# Altium schematic symbol library kmilo17pet-LT_OpAmp_LT2000.SchLib: 1710 symbols (part 71 of 75)
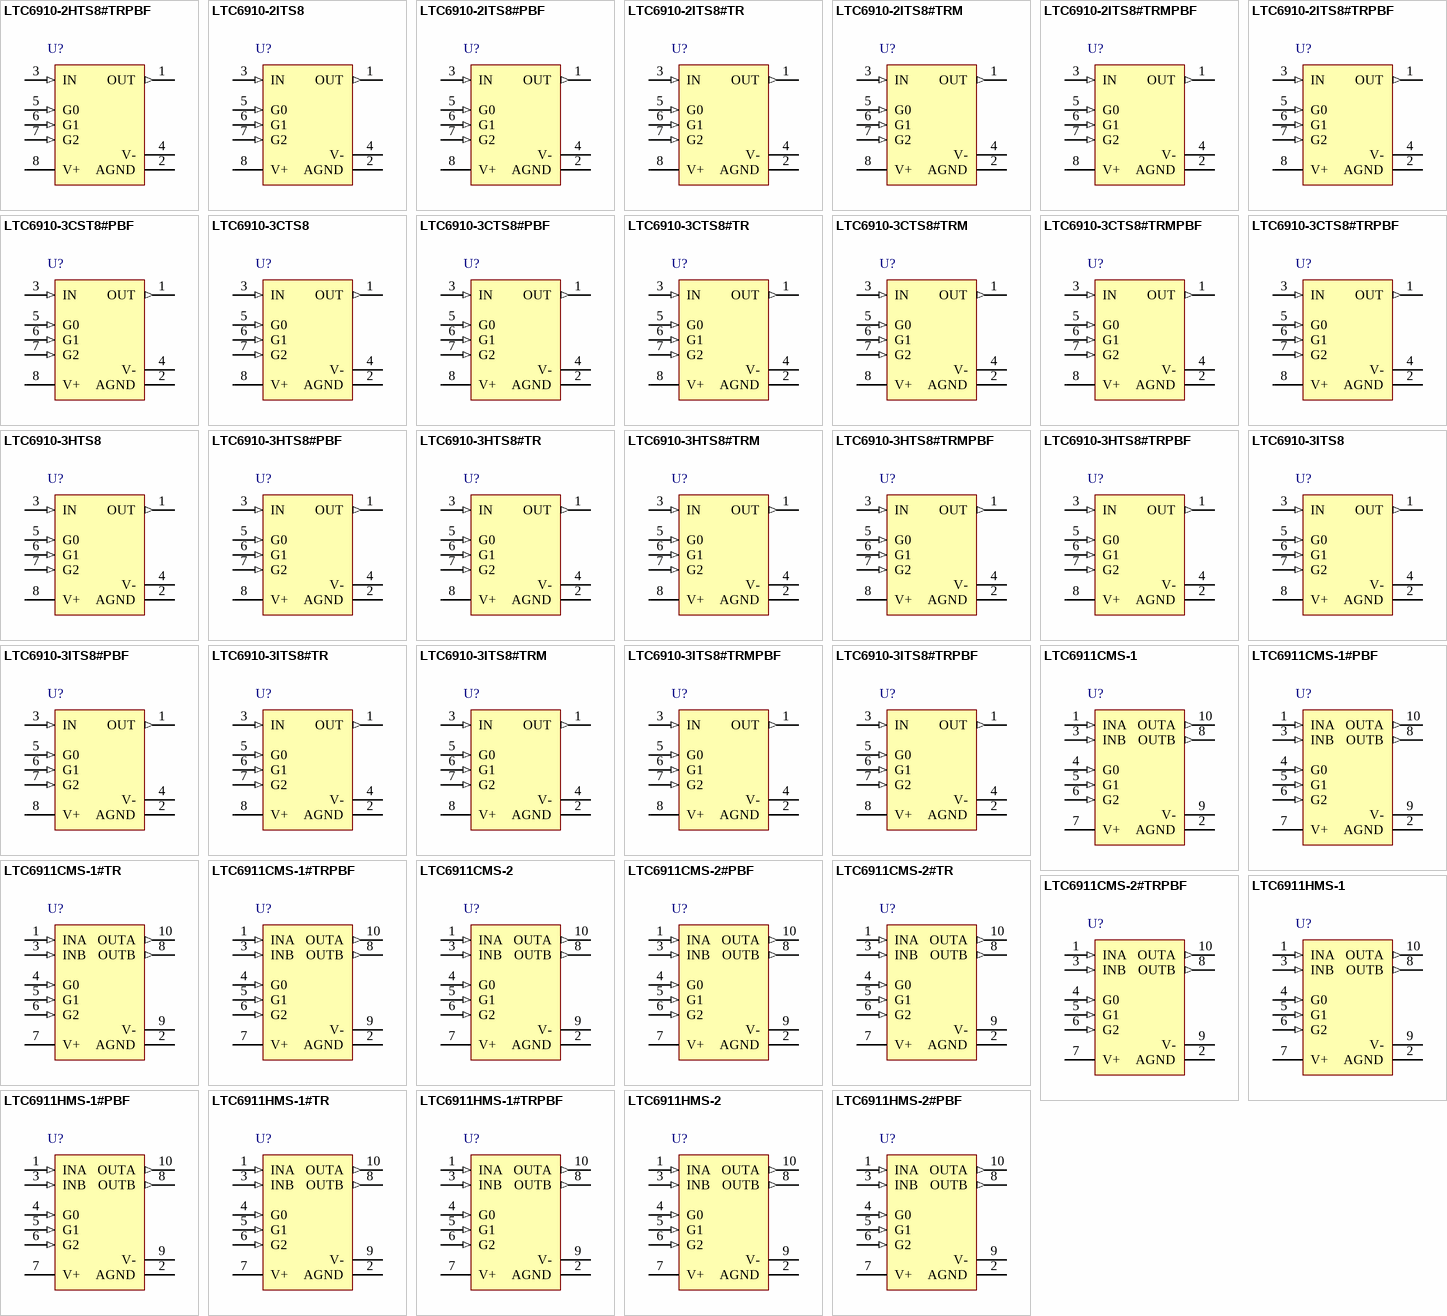
[diagram p150: symbols LTC6910-2HTS8#TRPBF to LTC6911HMS-2#PBF]

## LTC6910-3HTS8#TRM
designator U?
Single Channel, Digitally Controlled Programmable Gain Amplifier, 11 MHz Typical GBW, 16 V/us Typical SR, 2.7 to 11 V, 8-Pin SOT23 (TS8-8), High Temperature / Automotive, Mini Reel; Linear Technology Part Number: LTC6910-3; Manufacturer: Linear Technology; PartNumber: LTC6910-3HTS8#TRM; Channels (#): 1; GBW (MHz) Typical: 11; Is (mA) Typical: 2; SR (V/us) Typical: 16; Vos (mV) Typical: 3; Vs Min (V): 2.7; DatasheetVersion: Rev. A; PackageVersion: Rev A; PackageReference: LT-TS8-8-TSOT-23; PackageDescription: 8-Lead Plastic TSOT-23, Body 2.9 x 1.63 mm, Pitch 0.65 mm; Supplier 1: Digi-Key; Supplier Part Number 1: LTC6910-3HTS8#TRM-ND; Packing: Mini Reel; Type: PGA; Vs Max (V): 11; Mounting Technology: Surface Mount; Code_JEDEC: MO-193; ComponentLink1Description: Manufacturer URL; ComponentLink1URL: http://www.linear.com/; ComponentLink2Description: Datasheet; ComponentLink2URL: http://cds.linear.com/docs/en/datasheet/6910123fa.pdf; ComponentLink3Description: Package Specification; ComponentLink3URL: http://cds.linear.com/docs/en/packaging/SOT_8_05-08-1637.pdf
footprint LT-TS8-8-TSOT-23_V (SOT23, 8-Leads, Body 2.90x1.63mm, Pitch 0.65mm, IPC High Density, Recommended)
pins: 1 OUT (out) "Analog Output. This is the output of an internal operational amplifier and swings to near the power supply rails (V+ and V-) as specified in the Electrical Characteristics table.", 2 AGND (power) "Analog Ground. The AGND pin is at the midpoint of an internal resistive voltage divider, develop- ing a potential halfway between the V+ and V- pins, with an equivalent series resistance to the pin of nominally 5k ohm.", 3 IN (in) "Analog Input. The input signal to the amplifier in the LTC6910-X is the voltage difference between the IN and AGND pins.", 4 V- (power) "Power Supply Pin.", 5 G0 (in) "CMOS-Level Digital Gain- Control Input.", 6 G1 (in) "CMOS-Level Digital Gain- Control Input.", 7 G2 (in) "CMOS-Level Digital Gain- Control Input.", 8 V+ (power) "Power Supply Pin."

## LTC6910-3HTS8#TRMPBF
designator U?
Single Channel, Digitally Controlled Programmable Gain Amplifier, 11 MHz Typical GBW, 16 V/us Typical SR, 2.7 to 11 V, 8-Pin SOT23 (TS8-8), High Temperature / Automotive, Pb-Free, Mini Reel; Linear Technology Part Number: LTC6910-3; Manufacturer: Linear Technology; PartNumber: LTC6910-3HTS8#TRMPBF; Channels (#): 1; GBW (MHz) Typical: 11; Is (mA) Typical: 2; SR (V/us) Typical: 16; Vos (mV) Typical: 3; Vs Min (V): 2.7; DatasheetVersion: Rev. A; PackageVersion: Rev A; PackageReference: LT-TS8-8-TSOT-23; PackageDescription: 8-Lead Plastic TSOT-23, Body 2.9 x 1.63 mm, Pitch 0.65 mm; Supplier 1: Digi-Key; Supplier Part Number 1: LTC6910-3HTS8#TRMPBF-ND; Packing: Mini Reel; RoHS: Pb-Free; Type: PGA; Vs Max (V): 11; Mounting Technology: Surface Mount; Code_JEDEC: MO-193; ComponentLink1Description: Manufacturer URL; ComponentLink1URL: http://www.linear.com/; ComponentLink2Description: Datasheet; ComponentLink2URL: http://cds.linear.com/docs/en/datasheet/6910123fa.pdf; ComponentLink3Description: Package Specification; ComponentLink3URL: http://cds.linear.com/docs/en/packaging/SOT_8_05-08-1637.pdf
footprint LT-TS8-8-TSOT-23_V (SOT23, 8-Leads, Body 2.90x1.63mm, Pitch 0.65mm, IPC High Density, Recommended)
pins: 1 OUT (out) "Analog Output. This is the output of an internal operational amplifier and swings to near the power supply rails (V+ and V-) as specified in the Electrical Characteristics table.", 2 AGND (power) "Analog Ground. The AGND pin is at the midpoint of an internal resistive voltage divider, develop- ing a potential halfway between the V+ and V- pins, with an equivalent series resistance to the pin of nominally 5k ohm.", 3 IN (in) "Analog Input. The input signal to the amplifier in the LTC6910-X is the voltage difference between the IN and AGND pins.", 4 V- (power) "Power Supply Pin.", 5 G0 (in) "CMOS-Level Digital Gain- Control Input.", 6 G1 (in) "CMOS-Level Digital Gain- Control Input.", 7 G2 (in) "CMOS-Level Digital Gain- Control Input.", 8 V+ (power) "Power Supply Pin."

## LTC6910-3HTS8#TRPBF
designator U?
Single Channel, Digitally Controlled Programmable Gain Amplifier, 11 MHz Typical GBW, 16 V/us Typical SR, 2.7 to 11 V, 8-Pin SOT23 (TS8-8), High Temperature / Automotive, Pb-Free, Reel; Linear Technology Part Number: LTC6910-3; Manufacturer: Linear Technology; PartNumber: LTC6910-3HTS8#TRPBF; Channels (#): 1; GBW (MHz) Typical: 11; Is (mA) Typical: 2; SR (V/us) Typical: 16; Vos (mV) Typical: 3; Vs Min (V): 2.7; DatasheetVersion: Rev. A; PackageVersion: Rev A; PackageReference: LT-TS8-8-TSOT-23; PackageDescription: 8-Lead Plastic TSOT-23, Body 2.9 x 1.63 mm, Pitch 0.65 mm; Supplier 1: Digi-Key; Supplier Part Number 1: LTC6910-3HTS8#TRPBF-ND; Packing: Reel; RoHS: Pb-Free; Type: PGA; Vs Max (V): 11; Mounting Technology: Surface Mount; Code_JEDEC: MO-193; ComponentLink1Description: Manufacturer URL; ComponentLink1URL: http://www.linear.com/; ComponentLink2Description: Datasheet; ComponentLink2URL: http://cds.linear.com/docs/en/datasheet/6910123fa.pdf; ComponentLink3Description: Package Specification; ComponentLink3URL: http://cds.linear.com/docs/en/packaging/SOT_8_05-08-1637.pdf
footprint LT-TS8-8-TSOT-23_V (SOT23, 8-Leads, Body 2.90x1.63mm, Pitch 0.65mm, IPC High Density, Recommended)
pins: 1 OUT (out) "Analog Output. This is the output of an internal operational amplifier and swings to near the power supply rails (V+ and V-) as specified in the Electrical Characteristics table.", 2 AGND (power) "Analog Ground. The AGND pin is at the midpoint of an internal resistive voltage divider, develop- ing a potential halfway between the V+ and V- pins, with an equivalent series resistance to the pin of nominally 5k ohm.", 3 IN (in) "Analog Input. The input signal to the amplifier in the LTC6910-X is the voltage difference between the IN and AGND pins.", 4 V- (power) "Power Supply Pin.", 5 G0 (in) "CMOS-Level Digital Gain- Control Input.", 6 G1 (in) "CMOS-Level Digital Gain- Control Input.", 7 G2 (in) "CMOS-Level Digital Gain- Control Input.", 8 V+ (power) "Power Supply Pin."

## LTC6910-3ITS8
designator U?
Single Channel, Digitally Controlled Programmable Gain Amplifier, 11 MHz Typical GBW, 16 V/us Typical SR, 2.7 to 11 V, 8-Pin SOT23 (TS8-8), Industrial; Linear Technology Part Number: LTC6910-3; Manufacturer: Linear Technology; PartNumber: LTC6910-3ITS8; Channels (#): 1; GBW (MHz) Typical: 11; Is (mA) Typical: 2; SR (V/us) Typical: 16; Vos (mV) Typical: 3; Vs Min (V): 2.7; DatasheetVersion: Rev. A; PackageVersion: Rev A; PackageReference: LT-TS8-8-TSOT-23; PackageDescription: 8-Lead Plastic TSOT-23, Body 2.9 x 1.63 mm, Pitch 0.65 mm; Type: PGA; Vs Max (V): 11; Mounting Technology: Surface Mount; Code_JEDEC: MO-193; ComponentLink1Description: Manufacturer URL; ComponentLink1URL: http://www.linear.com/; ComponentLink2Description: Datasheet; ComponentLink2URL: http://cds.linear.com/docs/en/datasheet/6910123fa.pdf; ComponentLink3Description: Package Specification; ComponentLink3URL: http://cds.linear.com/docs/en/packaging/SOT_8_05-08-1637.pdf
footprint LT-TS8-8-TSOT-23_V (SOT23, 8-Leads, Body 2.90x1.63mm, Pitch 0.65mm, IPC High Density, Recommended)
pins: 1 OUT (out) "Analog Output. This is the output of an internal operational amplifier and swings to near the power supply rails (V+ and V-) as specified in the Electrical Characteristics table.", 2 AGND (power) "Analog Ground. The AGND pin is at the midpoint of an internal resistive voltage divider, develop- ing a potential halfway between the V+ and V- pins, with an equivalent series resistance to the pin of nominally 5k ohm.", 3 IN (in) "Analog Input. The input signal to the amplifier in the LTC6910-X is the voltage difference between the IN and AGND pins.", 4 V- (power) "Power Supply Pin.", 5 G0 (in) "CMOS-Level Digital Gain- Control Input.", 6 G1 (in) "CMOS-Level Digital Gain- Control Input.", 7 G2 (in) "CMOS-Level Digital Gain- Control Input.", 8 V+ (power) "Power Supply Pin."

## LTC6910-3ITS8#PBF
designator U?
Single Channel, Digitally Controlled Programmable Gain Amplifier, 11 MHz Typical GBW, 16 V/us Typical SR, 2.7 to 11 V, 8-Pin SOT23 (TS8-8), Industrial, Pb-Free; Linear Technology Part Number: LTC6910-3; Manufacturer: Linear Technology; PartNumber: LTC6910-3ITS8#PBF; Channels (#): 1; GBW (MHz) Typical: 11; Is (mA) Typical: 2; SR (V/us) Typical: 16; Vos (mV) Typical: 3; Vs Min (V): 2.7; DatasheetVersion: Rev. A; PackageVersion: Rev A; PackageReference: LT-TS8-8-TSOT-23; PackageDescription: 8-Lead Plastic TSOT-23, Body 2.9 x 1.63 mm, Pitch 0.65 mm; Supplier 1: Newark; Supplier Part Number 1: 78T3524; RoHS: Pb-Free; Type: PGA; Vs Max (V): 11; Mounting Technology: Surface Mount; Code_JEDEC: MO-193; ComponentLink1Description: Manufacturer URL; ComponentLink1URL: http://www.linear.com/; ComponentLink2Description: Datasheet; ComponentLink2URL: http://cds.linear.com/docs/en/datasheet/6910123fa.pdf; ComponentLink3Description: Package Specification; ComponentLink3URL: http://cds.linear.com/docs/en/packaging/SOT_8_05-08-1637.pdf
footprint LT-TS8-8-TSOT-23_V (SOT23, 8-Leads, Body 2.90x1.63mm, Pitch 0.65mm, IPC High Density, Recommended)
pins: 1 OUT (out) "Analog Output. This is the output of an internal operational amplifier and swings to near the power supply rails (V+ and V-) as specified in the Electrical Characteristics table.", 2 AGND (power) "Analog Ground. The AGND pin is at the midpoint of an internal resistive voltage divider, develop- ing a potential halfway between the V+ and V- pins, with an equivalent series resistance to the pin of nominally 5k ohm.", 3 IN (in) "Analog Input. The input signal to the amplifier in the LTC6910-X is the voltage difference between the IN and AGND pins.", 4 V- (power) "Power Supply Pin.", 5 G0 (in) "CMOS-Level Digital Gain- Control Input.", 6 G1 (in) "CMOS-Level Digital Gain- Control Input.", 7 G2 (in) "CMOS-Level Digital Gain- Control Input.", 8 V+ (power) "Power Supply Pin."

## LTC6910-3ITS8#TR
designator U?
Single Channel, Digitally Controlled Programmable Gain Amplifier, 11 MHz Typical GBW, 16 V/us Typical SR, 2.7 to 11 V, 8-Pin SOT23 (TS8-8), Industrial, Reel; Linear Technology Part Number: LTC6910-3; Manufacturer: Linear Technology; PartNumber: LTC6910-3ITS8#TR; Channels (#): 1; GBW (MHz) Typical: 11; Is (mA) Typical: 2; SR (V/us) Typical: 16; Vos (mV) Typical: 3; Vs Min (V): 2.7; DatasheetVersion: Rev. A; PackageVersion: Rev A; PackageReference: LT-TS8-8-TSOT-23; PackageDescription: 8-Lead Plastic TSOT-23, Body 2.9 x 1.63 mm, Pitch 0.65 mm; Supplier 1: Digi-Key; Supplier Part Number 1: LTC6910-3ITS8#TR-ND; Packing: Reel; Type: PGA; Vs Max (V): 11; Mounting Technology: Surface Mount; Code_JEDEC: MO-193; ComponentLink1Description: Manufacturer URL; ComponentLink1URL: http://www.linear.com/; ComponentLink2Description: Datasheet; ComponentLink2URL: http://cds.linear.com/docs/en/datasheet/6910123fa.pdf; ComponentLink3Description: Package Specification; ComponentLink3URL: http://cds.linear.com/docs/en/packaging/SOT_8_05-08-1637.pdf
footprint LT-TS8-8-TSOT-23_V (SOT23, 8-Leads, Body 2.90x1.63mm, Pitch 0.65mm, IPC High Density, Recommended)
pins: 1 OUT (out) "Analog Output. This is the output of an internal operational amplifier and swings to near the power supply rails (V+ and V-) as specified in the Electrical Characteristics table.", 2 AGND (power) "Analog Ground. The AGND pin is at the midpoint of an internal resistive voltage divider, develop- ing a potential halfway between the V+ and V- pins, with an equivalent series resistance to the pin of nominally 5k ohm.", 3 IN (in) "Analog Input. The input signal to the amplifier in the LTC6910-X is the voltage difference between the IN and AGND pins.", 4 V- (power) "Power Supply Pin.", 5 G0 (in) "CMOS-Level Digital Gain- Control Input.", 6 G1 (in) "CMOS-Level Digital Gain- Control Input.", 7 G2 (in) "CMOS-Level Digital Gain- Control Input.", 8 V+ (power) "Power Supply Pin."

## LTC6910-3ITS8#TRM
designator U?
Single Channel, Digitally Controlled Programmable Gain Amplifier, 11 MHz Typical GBW, 16 V/us Typical SR, 2.7 to 11 V, 8-Pin SOT23 (TS8-8), Industrial, Mini Reel; Linear Technology Part Number: LTC6910-3; Manufacturer: Linear Technology; PartNumber: LTC6910-3ITS8#TRM; Channels (#): 1; GBW (MHz) Typical: 11; Is (mA) Typical: 2; SR (V/us) Typical: 16; Vos (mV) Typical: 3; Vs Min (V): 2.7; DatasheetVersion: Rev. A; PackageVersion: Rev A; PackageReference: LT-TS8-8-TSOT-23; PackageDescription: 8-Lead Plastic TSOT-23, Body 2.9 x 1.63 mm, Pitch 0.65 mm; Supplier 1: Digi-Key; Supplier Part Number 1: LTC6910-3ITS8#TRM-ND; Packing: Mini Reel; Type: PGA; Vs Max (V): 11; Mounting Technology: Surface Mount; Code_JEDEC: MO-193; ComponentLink1Description: Manufacturer URL; ComponentLink1URL: http://www.linear.com/; ComponentLink2Description: Datasheet; ComponentLink2URL: http://cds.linear.com/docs/en/datasheet/6910123fa.pdf; ComponentLink3Description: Package Specification; ComponentLink3URL: http://cds.linear.com/docs/en/packaging/SOT_8_05-08-1637.pdf
footprint LT-TS8-8-TSOT-23_V (SOT23, 8-Leads, Body 2.90x1.63mm, Pitch 0.65mm, IPC High Density, Recommended)
pins: 1 OUT (out) "Analog Output. This is the output of an internal operational amplifier and swings to near the power supply rails (V+ and V-) as specified in the Electrical Characteristics table.", 2 AGND (power) "Analog Ground. The AGND pin is at the midpoint of an internal resistive voltage divider, develop- ing a potential halfway between the V+ and V- pins, with an equivalent series resistance to the pin of nominally 5k ohm.", 3 IN (in) "Analog Input. The input signal to the amplifier in the LTC6910-X is the voltage difference between the IN and AGND pins.", 4 V- (power) "Power Supply Pin.", 5 G0 (in) "CMOS-Level Digital Gain- Control Input.", 6 G1 (in) "CMOS-Level Digital Gain- Control Input.", 7 G2 (in) "CMOS-Level Digital Gain- Control Input.", 8 V+ (power) "Power Supply Pin."

## LTC6910-3ITS8#TRMPBF
designator U?
Single Channel, Digitally Controlled Programmable Gain Amplifier, 11 MHz Typical GBW, 16 V/us Typical SR, 2.7 to 11 V, 8-Pin SOT23 (TS8-8), Industrial, Pb-Free, Mini Reel; Linear Technology Part Number: LTC6910-3; Manufacturer: Linear Technology; PartNumber: LTC6910-3ITS8#TRMPBF; Channels (#): 1; GBW (MHz) Typical: 11; Is (mA) Typical: 2; SR (V/us) Typical: 16; Vos (mV) Typical: 3; Vs Min (V): 2.7; DatasheetVersion: Rev. A; PackageVersion: Rev A; PackageReference: LT-TS8-8-TSOT-23; PackageDescription: 8-Lead Plastic TSOT-23, Body 2.9 x 1.63 mm, Pitch 0.65 mm; Supplier 1: Digi-Key; Supplier Part Number 1: LTC6910-3ITS8#TRMPBF-ND; Packing: Mini Reel; RoHS: Pb-Free; Type: PGA; Vs Max (V): 11; Mounting Technology: Surface Mount; Code_JEDEC: MO-193; ComponentLink1Description: Manufacturer URL; ComponentLink1URL: http://www.linear.com/; ComponentLink2Description: Datasheet; ComponentLink2URL: http://cds.linear.com/docs/en/datasheet/6910123fa.pdf; ComponentLink3Description: Package Specification; ComponentLink3URL: http://cds.linear.com/docs/en/packaging/SOT_8_05-08-1637.pdf
footprint LT-TS8-8-TSOT-23_V (SOT23, 8-Leads, Body 2.90x1.63mm, Pitch 0.65mm, IPC High Density, Recommended)
pins: 1 OUT (out) "Analog Output. This is the output of an internal operational amplifier and swings to near the power supply rails (V+ and V-) as specified in the Electrical Characteristics table.", 2 AGND (power) "Analog Ground. The AGND pin is at the midpoint of an internal resistive voltage divider, develop- ing a potential halfway between the V+ and V- pins, with an equivalent series resistance to the pin of nominally 5k ohm.", 3 IN (in) "Analog Input. The input signal to the amplifier in the LTC6910-X is the voltage difference between the IN and AGND pins.", 4 V- (power) "Power Supply Pin.", 5 G0 (in) "CMOS-Level Digital Gain- Control Input.", 6 G1 (in) "CMOS-Level Digital Gain- Control Input.", 7 G2 (in) "CMOS-Level Digital Gain- Control Input.", 8 V+ (power) "Power Supply Pin."

## LTC6910-3ITS8#TRPBF
designator U?
Single Channel, Digitally Controlled Programmable Gain Amplifier, 11 MHz Typical GBW, 16 V/us Typical SR, 2.7 to 11 V, 8-Pin SOT23 (TS8-8), Industrial, Pb-Free, Reel; Linear Technology Part Number: LTC6910-3; Manufacturer: Linear Technology; PartNumber: LTC6910-3ITS8#TRPBF; Channels (#): 1; GBW (MHz) Typical: 11; Is (mA) Typical: 2; SR (V/us) Typical: 16; Vos (mV) Typical: 3; Vs Min (V): 2.7; DatasheetVersion: Rev. A; PackageVersion: Rev A; PackageReference: LT-TS8-8-TSOT-23; PackageDescription: 8-Lead Plastic TSOT-23, Body 2.9 x 1.63 mm, Pitch 0.65 mm; Supplier 1: Digi-Key; Supplier Part Number 1: LTC6910-3ITS8#TRPBF-ND; Packing: Reel; RoHS: Pb-Free; Type: PGA; Vs Max (V): 11; Mounting Technology: Surface Mount; Code_JEDEC: MO-193; ComponentLink1Description: Manufacturer URL; ComponentLink1URL: http://www.linear.com/; ComponentLink2Description: Datasheet; ComponentLink2URL: http://cds.linear.com/docs/en/datasheet/6910123fa.pdf; ComponentLink3Description: Package Specification; ComponentLink3URL: http://cds.linear.com/docs/en/packaging/SOT_8_05-08-1637.pdf
footprint LT-TS8-8-TSOT-23_V (SOT23, 8-Leads, Body 2.90x1.63mm, Pitch 0.65mm, IPC High Density, Recommended)
pins: 1 OUT (out) "Analog Output. This is the output of an internal operational amplifier and swings to near the power supply rails (V+ and V-) as specified in the Electrical Characteristics table.", 2 AGND (power) "Analog Ground. The AGND pin is at the midpoint of an internal resistive voltage divider, develop- ing a potential halfway between the V+ and V- pins, with an equivalent series resistance to the pin of nominally 5k ohm.", 3 IN (in) "Analog Input. The input signal to the amplifier in the LTC6910-X is the voltage difference between the IN and AGND pins.", 4 V- (power) "Power Supply Pin.", 5 G0 (in) "CMOS-Level Digital Gain- Control Input.", 6 G1 (in) "CMOS-Level Digital Gain- Control Input.", 7 G2 (in) "CMOS-Level Digital Gain- Control Input.", 8 V+ (power) "Power Supply Pin."

## LTC6911CMS-1
designator U?
Dual Channel, Matched Amplifier with Digitally Programmable Gain, 11 MHz Typical GBW, 16 V/us Typical SR, 2.7 to 10.5 V, 10-Pin SOP (MS-10), Commercial; Linear Technology Part Number: LTC6911-1; Manufacturer: Linear Technology; PartNumber: LTC6911CMS-1; Channels (#): 2; GBW (MHz) Typical: 11; Is (mA) Typical: 2.1; SR (V/us) Typical: 16; Vs Max (V): 10.5; Vs Min (V): 2.7; PackageVersion: Rev E; PackageReference: LT-MS-10; PackageDescription: 10-Lead Plastic MSOP, Body 3 x 3 mm, Pitch 0.5 mm; Supplier 1: Digi-Key; Supplier Part Number 1: LTC6911CMS-1-ND; Type: PGA; Vos (mV) Typical: 2; Mounting Technology: Surface Mount; ComponentLink1Description: Manufacturer URL; ComponentLink1URL: http://www.linear.com/; ComponentLink2Description: Datasheet; ComponentLink2URL: http://cds.linear.com/docs/en/datasheet/691112fs.pdf; ComponentLink3Description: Package Specification; ComponentLink3URL: http://cds.linear.com/docs/en/packaging/MSOP_10_05-08-1661.pdf
footprint LT-MS-10_N (SOP, 10-Leads, Body 3x3mm, Pitch 0.50mm, IPC Medium Density)
footprint LT-MS-10_L (SOP, 10-Leads, Body 3x3mm, Pitch 0.50mm, IPC High Density)
footprint LT-MS-10_M (SOP, 10-Leads, Body 3x3mm, Pitch 0.50mm, IPC Low Density)
pins: 1 INA (in) "Analog Input. The input signal to the A channel amplifier of the LTC6911-X is the voltage difference between the INA and AGND pin.", 2 AGND (power) "Analog Ground. The AGND pin is at the midpoint of an internal resistive voltage divider, developing a potential halfway between the V+ and V- pins, with an equivalent series resistance to the pin of nominally 5kW (FigureÊ1).", 3 INB (in) "Analog Input. Refer to INA pin description.", 4 G0 (in) "CMOS-Level Digital Gain Control Inputs. G2 is the most significant bit (MSB) and G0 is the least significant bit (LSB). These pins control the voltage gain settings for both channels (see Tables 1 and2). Each channel’s gain (See Datasheet)", 5 G1 (in) "CMOS-Level Digital Gain Control Inputs. G2 is the most significant bit (MSB) and G0 is the least significant bit (LSB). These pins control the voltage gain settings for both channels (see Tables 1 and2). Each channel’s gain (See Datasheet)", 6 G2 (in) "CMOS-Level Digital Gain Control Inputs. G2 is the most significant bit (MSB) and G0 is the least significant bit (LSB). These pins control the voltage gain settings for both channels (see Tables 1 and2). Each channel’s gain (See Datasheet)", 7 V+ (power) "Power Supply Pins. The V+ and V- pins should be bypassed with 0.1mF capacitors to an adequate analog ground plane using the shortest possible wiring. Electrically clean supplies and a low impedance ground are important for (See Datasheet)", 8 OUTB (out) "Analog Output. This is the output of the B channel internal operational amplifier and can swing railto- rail (V+ to V-) as specified in the Electrical Characteristics table.", 9 V- (power) "Power Supply Pins. The V+ and V- pins should be bypassed with 0.1mF capacitors to an adequate analog ground plane using the shortest possible wiring. Electrically clean supplies and a low impedance ground are important for (See Datasheet)", 10 OUTA (out) "Analog Output. Refer to OUTB pin description."

## LTC6911CMS-1#PBF
designator U?
Dual Channel, Matched Amplifier with Digitally Programmable Gain, 11 MHz Typical GBW, 16 V/us Typical SR, 2.7 to 10.5 V, 10-Pin SOP (MS-10), Commercial, Pb-Free; Linear Technology Part Number: LTC6911-1; Manufacturer: Linear Technology; PartNumber: LTC6911CMS-1#PBF; Channels (#): 2; GBW (MHz) Typical: 11; Is (mA) Typical: 2.1; SR (V/us) Typical: 16; Vs Max (V): 10.5; Vs Min (V): 2.7; PackageVersion: Rev E; PackageReference: LT-MS-10; PackageDescription: 10-Lead Plastic MSOP, Body 3 x 3 mm, Pitch 0.5 mm; Supplier 1: Digi-Key; Supplier Part Number 1: LTC6911CMS-1#PBF-ND; Supplier 2: Farnell; Supplier Part Number 2: 1330973; Supplier 3: Newark; Supplier Part Number 3: 57M0365; RoHS: Pb-Free; Type: PGA; Vos (mV) Typical: 2; Mounting Technology: Surface Mount; ComponentLink1Description: Manufacturer URL; ComponentLink1URL: http://www.linear.com/; ComponentLink2Description: Datasheet; ComponentLink2URL: http://cds.linear.com/docs/en/datasheet/691112fs.pdf; ComponentLink3Description: Package Specification; ComponentLink3URL: http://cds.linear.com/docs/en/packaging/MSOP_10_05-08-1661.pdf
footprint LT-MS-10_N (SOP, 10-Leads, Body 3x3mm, Pitch 0.50mm, IPC Medium Density)
footprint LT-MS-10_L (SOP, 10-Leads, Body 3x3mm, Pitch 0.50mm, IPC High Density)
footprint LT-MS-10_M (SOP, 10-Leads, Body 3x3mm, Pitch 0.50mm, IPC Low Density)
pins: 1 INA (in) "Analog Input. The input signal to the A channel amplifier of the LTC6911-X is the voltage difference between the INA and AGND pin.", 2 AGND (power) "Analog Ground. The AGND pin is at the midpoint of an internal resistive voltage divider, developing a potential halfway between the V+ and V- pins, with an equivalent series resistance to the pin of nominally 5kW (FigureÊ1).", 3 INB (in) "Analog Input. Refer to INA pin description.", 4 G0 (in) "CMOS-Level Digital Gain Control Inputs. G2 is the most significant bit (MSB) and G0 is the least significant bit (LSB). These pins control the voltage gain settings for both channels (see Tables 1 and2). Each channel’s gain (See Datasheet)", 5 G1 (in) "CMOS-Level Digital Gain Control Inputs. G2 is the most significant bit (MSB) and G0 is the least significant bit (LSB). These pins control the voltage gain settings for both channels (see Tables 1 and2). Each channel’s gain (See Datasheet)", 6 G2 (in) "CMOS-Level Digital Gain Control Inputs. G2 is the most significant bit (MSB) and G0 is the least significant bit (LSB). These pins control the voltage gain settings for both channels (see Tables 1 and2). Each channel’s gain (See Datasheet)", 7 V+ (power) "Power Supply Pins. The V+ and V- pins should be bypassed with 0.1mF capacitors to an adequate analog ground plane using the shortest possible wiring. Electrically clean supplies and a low impedance ground are important for (See Datasheet)", 8 OUTB (out) "Analog Output. This is the output of the B channel internal operational amplifier and can swing railto- rail (V+ to V-) as specified in the Electrical Characteristics table.", 9 V- (power) "Power Supply Pins. The V+ and V- pins should be bypassed with 0.1mF capacitors to an adequate analog ground plane using the shortest possible wiring. Electrically clean supplies and a low impedance ground are important for (See Datasheet)", 10 OUTA (out) "Analog Output. Refer to OUTB pin description."

## LTC6911CMS-1#TR
designator U?
Dual Channel, Matched Amplifier with Digitally Programmable Gain, 11 MHz Typical GBW, 16 V/us Typical SR, 2.7 to 10.5 V, 10-Pin SOP (MS-10), Commercial, Reel; Linear Technology Part Number: LTC6911-1; Manufacturer: Linear Technology; PartNumber: LTC6911CMS-1#TR; Channels (#): 2; GBW (MHz) Typical: 11; Is (mA) Typical: 2.1; SR (V/us) Typical: 16; Vs Max (V): 10.5; Vs Min (V): 2.7; PackageVersion: Rev E; PackageReference: LT-MS-10; PackageDescription: 10-Lead Plastic MSOP, Body 3 x 3 mm, Pitch 0.5 mm; Supplier 1: Digi-Key; Supplier Part Number 1: LTC6911CMS-1#TR-ND; Packing: Reel; Type: PGA; Vos (mV) Typical: 2; Mounting Technology: Surface Mount; ComponentLink1Description: Manufacturer URL; ComponentLink1URL: http://www.linear.com/; ComponentLink2Description: Datasheet; ComponentLink2URL: http://cds.linear.com/docs/en/datasheet/691112fs.pdf; ComponentLink3Description: Package Specification; ComponentLink3URL: http://cds.linear.com/docs/en/packaging/MSOP_10_05-08-1661.pdf
footprint LT-MS-10_N (SOP, 10-Leads, Body 3x3mm, Pitch 0.50mm, IPC Medium Density)
footprint LT-MS-10_L (SOP, 10-Leads, Body 3x3mm, Pitch 0.50mm, IPC High Density)
footprint LT-MS-10_M (SOP, 10-Leads, Body 3x3mm, Pitch 0.50mm, IPC Low Density)
pins: 1 INA (in) "Analog Input. The input signal to the A channel amplifier of the LTC6911-X is the voltage difference between the INA and AGND pin.", 2 AGND (power) "Analog Ground. The AGND pin is at the midpoint of an internal resistive voltage divider, developing a potential halfway between the V+ and V- pins, with an equivalent series resistance to the pin of nominally 5kW (FigureÊ1).", 3 INB (in) "Analog Input. Refer to INA pin description.", 4 G0 (in) "CMOS-Level Digital Gain Control Inputs. G2 is the most significant bit (MSB) and G0 is the least significant bit (LSB). These pins control the voltage gain settings for both channels (see Tables 1 and2). Each channel’s gain (See Datasheet)", 5 G1 (in) "CMOS-Level Digital Gain Control Inputs. G2 is the most significant bit (MSB) and G0 is the least significant bit (LSB). These pins control the voltage gain settings for both channels (see Tables 1 and2). Each channel’s gain (See Datasheet)", 6 G2 (in) "CMOS-Level Digital Gain Control Inputs. G2 is the most significant bit (MSB) and G0 is the least significant bit (LSB). These pins control the voltage gain settings for both channels (see Tables 1 and2). Each channel’s gain (See Datasheet)", 7 V+ (power) "Power Supply Pins. The V+ and V- pins should be bypassed with 0.1mF capacitors to an adequate analog ground plane using the shortest possible wiring. Electrically clean supplies and a low impedance ground are important for (See Datasheet)", 8 OUTB (out) "Analog Output. This is the output of the B channel internal operational amplifier and can swing railto- rail (V+ to V-) as specified in the Electrical Characteristics table.", 9 V- (power) "Power Supply Pins. The V+ and V- pins should be bypassed with 0.1mF capacitors to an adequate analog ground plane using the shortest possible wiring. Electrically clean supplies and a low impedance ground are important for (See Datasheet)", 10 OUTA (out) "Analog Output. Refer to OUTB pin description."

## LTC6911CMS-1#TRPBF
designator U?
Dual Channel, Matched Amplifier with Digitally Programmable Gain, 11 MHz Typical GBW, 16 V/us Typical SR, 2.7 to 10.5 V, 10-Pin SOP (MS-10), Commercial, Pb-Free, Reel; Linear Technology Part Number: LTC6911-1; Manufacturer: Linear Technology; PartNumber: LTC6911CMS-1#TRPBF; Channels (#): 2; GBW (MHz) Typical: 11; Is (mA) Typical: 2.1; SR (V/us) Typical: 16; Vs Max (V): 10.5; Vs Min (V): 2.7; PackageVersion: Rev E; PackageReference: LT-MS-10; PackageDescription: 10-Lead Plastic MSOP, Body 3 x 3 mm, Pitch 0.5 mm; Supplier 1: Digi-Key; Supplier Part Number 1: LTC6911CMS-1#TRPBF-ND; Packing: Reel; RoHS: Pb-Free; Type: PGA; Vos (mV) Typical: 2; Mounting Technology: Surface Mount; ComponentLink1Description: Manufacturer URL; ComponentLink1URL: http://www.linear.com/; ComponentLink2Description: Datasheet; ComponentLink2URL: http://cds.linear.com/docs/en/datasheet/691112fs.pdf; ComponentLink3Description: Package Specification; ComponentLink3URL: http://cds.linear.com/docs/en/packaging/MSOP_10_05-08-1661.pdf
footprint LT-MS-10_N (SOP, 10-Leads, Body 3x3mm, Pitch 0.50mm, IPC Medium Density)
footprint LT-MS-10_L (SOP, 10-Leads, Body 3x3mm, Pitch 0.50mm, IPC High Density)
footprint LT-MS-10_M (SOP, 10-Leads, Body 3x3mm, Pitch 0.50mm, IPC Low Density)
pins: 1 INA (in) "Analog Input. The input signal to the A channel amplifier of the LTC6911-X is the voltage difference between the INA and AGND pin.", 2 AGND (power) "Analog Ground. The AGND pin is at the midpoint of an internal resistive voltage divider, developing a potential halfway between the V+ and V- pins, with an equivalent series resistance to the pin of nominally 5kW (FigureÊ1).", 3 INB (in) "Analog Input. Refer to INA pin description.", 4 G0 (in) "CMOS-Level Digital Gain Control Inputs. G2 is the most significant bit (MSB) and G0 is the least significant bit (LSB). These pins control the voltage gain settings for both channels (see Tables 1 and2). Each channel’s gain (See Datasheet)", 5 G1 (in) "CMOS-Level Digital Gain Control Inputs. G2 is the most significant bit (MSB) and G0 is the least significant bit (LSB). These pins control the voltage gain settings for both channels (see Tables 1 and2). Each channel’s gain (See Datasheet)", 6 G2 (in) "CMOS-Level Digital Gain Control Inputs. G2 is the most significant bit (MSB) and G0 is the least significant bit (LSB). These pins control the voltage gain settings for both channels (see Tables 1 and2). Each channel’s gain (See Datasheet)", 7 V+ (power) "Power Supply Pins. The V+ and V- pins should be bypassed with 0.1mF capacitors to an adequate analog ground plane using the shortest possible wiring. Electrically clean supplies and a low impedance ground are important for (See Datasheet)", 8 OUTB (out) "Analog Output. This is the output of the B channel internal operational amplifier and can swing railto- rail (V+ to V-) as specified in the Electrical Characteristics table.", 9 V- (power) "Power Supply Pins. The V+ and V- pins should be bypassed with 0.1mF capacitors to an adequate analog ground plane using the shortest possible wiring. Electrically clean supplies and a low impedance ground are important for (See Datasheet)", 10 OUTA (out) "Analog Output. Refer to OUTB pin description."

## LTC6911CMS-2
designator U?
Dual Channel, Matched Amplifier with Digitally Programmable Gain, 11 MHz Typical GBW, 16 V/us Typical SR, 2.7 to 10.5 V, 10-Pin SOP (MS-10), Commercial; Linear Technology Part Number: LTC6911-2; Manufacturer: Linear Technology; PartNumber: LTC6911CMS-2; Channels (#): 2; GBW (MHz) Typical: 11; Is (mA) Typical: 2.1; SR (V/us) Typical: 16; Vs Max (V): 10.5; Vs Min (V): 2.7; PackageVersion: Rev E; PackageReference: LT-MS-10; PackageDescription: 10-Lead Plastic MSOP, Body 3 x 3 mm, Pitch 0.5 mm; Supplier 1: Digi-Key; Supplier Part Number 1: LTC6911CMS-2-ND; Type: PGA; Vos (mV) Typical: 2; Mounting Technology: Surface Mount; ComponentLink1Description: Manufacturer URL; ComponentLink1URL: http://www.linear.com/; ComponentLink2Description: Datasheet; ComponentLink2URL: http://cds.linear.com/docs/en/datasheet/691112fs.pdf; ComponentLink3Description: Package Specification; ComponentLink3URL: http://cds.linear.com/docs/en/packaging/MSOP_10_05-08-1661.pdf
footprint LT-MS-10_N (SOP, 10-Leads, Body 3x3mm, Pitch 0.50mm, IPC Medium Density)
footprint LT-MS-10_L (SOP, 10-Leads, Body 3x3mm, Pitch 0.50mm, IPC High Density)
footprint LT-MS-10_M (SOP, 10-Leads, Body 3x3mm, Pitch 0.50mm, IPC Low Density)
pins: 1 INA (in) "Analog Input. The input signal to the A channel amplifier of the LTC6911-X is the voltage difference between the INA and AGND pin.", 2 AGND (power) "Analog Ground. The AGND pin is at the midpoint of an internal resistive voltage divider, developing a potential halfway between the V+ and V- pins, with an equivalent series resistance to the pin of nominally 5kW (FigureÊ1).", 3 INB (in) "Analog Input. Refer to INA pin description.", 4 G0 (in) "CMOS-Level Digital Gain Control Inputs. G2 is the most significant bit (MSB) and G0 is the least significant bit (LSB). These pins control the voltage gain settings for both channels (see Tables 1 and2). Each channel’s gain (See Datasheet)", 5 G1 (in) "CMOS-Level Digital Gain Control Inputs. G2 is the most significant bit (MSB) and G0 is the least significant bit (LSB). These pins control the voltage gain settings for both channels (see Tables 1 and2). Each channel’s gain (See Datasheet)", 6 G2 (in) "CMOS-Level Digital Gain Control Inputs. G2 is the most significant bit (MSB) and G0 is the least significant bit (LSB). These pins control the voltage gain settings for both channels (see Tables 1 and2). Each channel’s gain (See Datasheet)", 7 V+ (power) "Power Supply Pins. The V+ and V- pins should be bypassed with 0.1mF capacitors to an adequate analog ground plane using the shortest possible wiring. Electrically clean supplies and a low impedance ground are important for (See Datasheet)", 8 OUTB (out) "Analog Output. This is the output of the B channel internal operational amplifier and can swing railto- rail (V+ to V-) as specified in the Electrical Characteristics table.", 9 V- (power) "Power Supply Pins. The V+ and V- pins should be bypassed with 0.1mF capacitors to an adequate analog ground plane using the shortest possible wiring. Electrically clean supplies and a low impedance ground are important for (See Datasheet)", 10 OUTA (out) "Analog Output. Refer to OUTB pin description."

## LTC6911CMS-2#PBF
designator U?
Dual Channel, Matched Amplifier with Digitally Programmable Gain, 11 MHz Typical GBW, 16 V/us Typical SR, 2.7 to 10.5 V, 10-Pin SOP (MS-10), Commercial, Pb-Free; Linear Technology Part Number: LTC6911-2; Manufacturer: Linear Technology; PartNumber: LTC6911CMS-2#PBF; Channels (#): 2; GBW (MHz) Typical: 11; Is (mA) Typical: 2.1; SR (V/us) Typical: 16; Vs Max (V): 10.5; Vs Min (V): 2.7; PackageVersion: Rev E; PackageReference: LT-MS-10; PackageDescription: 10-Lead Plastic MSOP, Body 3 x 3 mm, Pitch 0.5 mm; Supplier 1: Digi-Key; Supplier Part Number 1: LTC6911CMS-2#PBF-ND; RoHS: Pb-Free; Type: PGA; Vos (mV) Typical: 2; Mounting Technology: Surface Mount; ComponentLink1Description: Manufacturer URL; ComponentLink1URL: http://www.linear.com/; ComponentLink2Description: Datasheet; ComponentLink2URL: http://cds.linear.com/docs/en/datasheet/691112fs.pdf; ComponentLink3Description: Package Specification; ComponentLink3URL: http://cds.linear.com/docs/en/packaging/MSOP_10_05-08-1661.pdf
footprint LT-MS-10_N (SOP, 10-Leads, Body 3x3mm, Pitch 0.50mm, IPC Medium Density)
footprint LT-MS-10_L (SOP, 10-Leads, Body 3x3mm, Pitch 0.50mm, IPC High Density)
footprint LT-MS-10_M (SOP, 10-Leads, Body 3x3mm, Pitch 0.50mm, IPC Low Density)
pins: 1 INA (in) "Analog Input. The input signal to the A channel amplifier of the LTC6911-X is the voltage difference between the INA and AGND pin.", 2 AGND (power) "Analog Ground. The AGND pin is at the midpoint of an internal resistive voltage divider, developing a potential halfway between the V+ and V- pins, with an equivalent series resistance to the pin of nominally 5kW (FigureÊ1).", 3 INB (in) "Analog Input. Refer to INA pin description.", 4 G0 (in) "CMOS-Level Digital Gain Control Inputs. G2 is the most significant bit (MSB) and G0 is the least significant bit (LSB). These pins control the voltage gain settings for both channels (see Tables 1 and2). Each channel’s gain (See Datasheet)", 5 G1 (in) "CMOS-Level Digital Gain Control Inputs. G2 is the most significant bit (MSB) and G0 is the least significant bit (LSB). These pins control the voltage gain settings for both channels (see Tables 1 and2). Each channel’s gain (See Datasheet)", 6 G2 (in) "CMOS-Level Digital Gain Control Inputs. G2 is the most significant bit (MSB) and G0 is the least significant bit (LSB). These pins control the voltage gain settings for both channels (see Tables 1 and2). Each channel’s gain (See Datasheet)", 7 V+ (power) "Power Supply Pins. The V+ and V- pins should be bypassed with 0.1mF capacitors to an adequate analog ground plane using the shortest possible wiring. Electrically clean supplies and a low impedance ground are important for (See Datasheet)", 8 OUTB (out) "Analog Output. This is the output of the B channel internal operational amplifier and can swing railto- rail (V+ to V-) as specified in the Electrical Characteristics table.", 9 V- (power) "Power Supply Pins. The V+ and V- pins should be bypassed with 0.1mF capacitors to an adequate analog ground plane using the shortest possible wiring. Electrically clean supplies and a low impedance ground are important for (See Datasheet)", 10 OUTA (out) "Analog Output. Refer to OUTB pin description."

## LTC6911CMS-2#TR
designator U?
Dual Channel, Matched Amplifier with Digitally Programmable Gain, 11 MHz Typical GBW, 16 V/us Typical SR, 2.7 to 10.5 V, 10-Pin SOP (MS-10), Commercial, Reel; Linear Technology Part Number: LTC6911-2; Manufacturer: Linear Technology; PartNumber: LTC6911CMS-2#TR; Channels (#): 2; GBW (MHz) Typical: 11; Is (mA) Typical: 2.1; SR (V/us) Typical: 16; Vs Max (V): 10.5; Vs Min (V): 2.7; PackageVersion: Rev E; PackageReference: LT-MS-10; PackageDescription: 10-Lead Plastic MSOP, Body 3 x 3 mm, Pitch 0.5 mm; Supplier 1: Digi-Key; Supplier Part Number 1: LTC6911CMS-2#TR-ND; Packing: Reel; Type: PGA; Vos (mV) Typical: 2; Mounting Technology: Surface Mount; ComponentLink1Description: Manufacturer URL; ComponentLink1URL: http://www.linear.com/; ComponentLink2Description: Datasheet; ComponentLink2URL: http://cds.linear.com/docs/en/datasheet/691112fs.pdf; ComponentLink3Description: Package Specification; ComponentLink3URL: http://cds.linear.com/docs/en/packaging/MSOP_10_05-08-1661.pdf
footprint LT-MS-10_N (SOP, 10-Leads, Body 3x3mm, Pitch 0.50mm, IPC Medium Density)
footprint LT-MS-10_L (SOP, 10-Leads, Body 3x3mm, Pitch 0.50mm, IPC High Density)
footprint LT-MS-10_M (SOP, 10-Leads, Body 3x3mm, Pitch 0.50mm, IPC Low Density)
pins: 1 INA (in) "Analog Input. The input signal to the A channel amplifier of the LTC6911-X is the voltage difference between the INA and AGND pin.", 2 AGND (power) "Analog Ground. The AGND pin is at the midpoint of an internal resistive voltage divider, developing a potential halfway between the V+ and V- pins, with an equivalent series resistance to the pin of nominally 5kW (FigureÊ1).", 3 INB (in) "Analog Input. Refer to INA pin description.", 4 G0 (in) "CMOS-Level Digital Gain Control Inputs. G2 is the most significant bit (MSB) and G0 is the least significant bit (LSB). These pins control the voltage gain settings for both channels (see Tables 1 and2). Each channel’s gain (See Datasheet)", 5 G1 (in) "CMOS-Level Digital Gain Control Inputs. G2 is the most significant bit (MSB) and G0 is the least significant bit (LSB). These pins control the voltage gain settings for both channels (see Tables 1 and2). Each channel’s gain (See Datasheet)", 6 G2 (in) "CMOS-Level Digital Gain Control Inputs. G2 is the most significant bit (MSB) and G0 is the least significant bit (LSB). These pins control the voltage gain settings for both channels (see Tables 1 and2). Each channel’s gain (See Datasheet)", 7 V+ (power) "Power Supply Pins. The V+ and V- pins should be bypassed with 0.1mF capacitors to an adequate analog ground plane using the shortest possible wiring. Electrically clean supplies and a low impedance ground are important for (See Datasheet)", 8 OUTB (out) "Analog Output. This is the output of the B channel internal operational amplifier and can swing railto- rail (V+ to V-) as specified in the Electrical Characteristics table.", 9 V- (power) "Power Supply Pins. The V+ and V- pins should be bypassed with 0.1mF capacitors to an adequate analog ground plane using the shortest possible wiring. Electrically clean supplies and a low impedance ground are important for (See Datasheet)", 10 OUTA (out) "Analog Output. Refer to OUTB pin description."

## LTC6911CMS-2#TRPBF
designator U?
Dual Channel, Matched Amplifier with Digitally Programmable Gain, 11 MHz Typical GBW, 16 V/us Typical SR, 2.7 to 10.5 V, 10-Pin SOP (MS-10), Commercial, Pb-Free, Reel; Linear Technology Part Number: LTC6911-2; Manufacturer: Linear Technology; PartNumber: LTC6911CMS-2#TRPBF; Channels (#): 2; GBW (MHz) Typical: 11; Is (mA) Typical: 2.1; SR (V/us) Typical: 16; Vs Max (V): 10.5; Vs Min (V): 2.7; PackageVersion: Rev E; PackageReference: LT-MS-10; PackageDescription: 10-Lead Plastic MSOP, Body 3 x 3 mm, Pitch 0.5 mm; Supplier 1: Digi-Key; Supplier Part Number 1: LTC6911CMS-2#TRPBF-ND; Packing: Reel; RoHS: Pb-Free; Type: PGA; Vos (mV) Typical: 2; Mounting Technology: Surface Mount; ComponentLink1Description: Manufacturer URL; ComponentLink1URL: http://www.linear.com/; ComponentLink2Description: Datasheet; ComponentLink2URL: http://cds.linear.com/docs/en/datasheet/691112fs.pdf; ComponentLink3Description: Package Specification; ComponentLink3URL: http://cds.linear.com/docs/en/packaging/MSOP_10_05-08-1661.pdf
footprint LT-MS-10_N (SOP, 10-Leads, Body 3x3mm, Pitch 0.50mm, IPC Medium Density)
footprint LT-MS-10_L (SOP, 10-Leads, Body 3x3mm, Pitch 0.50mm, IPC High Density)
footprint LT-MS-10_M (SOP, 10-Leads, Body 3x3mm, Pitch 0.50mm, IPC Low Density)
pins: 1 INA (in) "Analog Input. The input signal to the A channel amplifier of the LTC6911-X is the voltage difference between the INA and AGND pin.", 2 AGND (power) "Analog Ground. The AGND pin is at the midpoint of an internal resistive voltage divider, developing a potential halfway between the V+ and V- pins, with an equivalent series resistance to the pin of nominally 5kW (FigureÊ1).", 3 INB (in) "Analog Input. Refer to INA pin description.", 4 G0 (in) "CMOS-Level Digital Gain Control Inputs. G2 is the most significant bit (MSB) and G0 is the least significant bit (LSB). These pins control the voltage gain settings for both channels (see Tables 1 and2). Each channel’s gain (See Datasheet)", 5 G1 (in) "CMOS-Level Digital Gain Control Inputs. G2 is the most significant bit (MSB) and G0 is the least significant bit (LSB). These pins control the voltage gain settings for both channels (see Tables 1 and2). Each channel’s gain (See Datasheet)", 6 G2 (in) "CMOS-Level Digital Gain Control Inputs. G2 is the most significant bit (MSB) and G0 is the least significant bit (LSB). These pins control the voltage gain settings for both channels (see Tables 1 and2). Each channel’s gain (See Datasheet)", 7 V+ (power) "Power Supply Pins. The V+ and V- pins should be bypassed with 0.1mF capacitors to an adequate analog ground plane using the shortest possible wiring. Electrically clean supplies and a low impedance ground are important for (See Datasheet)", 8 OUTB (out) "Analog Output. This is the output of the B channel internal operational amplifier and can swing railto- rail (V+ to V-) as specified in the Electrical Characteristics table.", 9 V- (power) "Power Supply Pins. The V+ and V- pins should be bypassed with 0.1mF capacitors to an adequate analog ground plane using the shortest possible wiring. Electrically clean supplies and a low impedance ground are important for (See Datasheet)", 10 OUTA (out) "Analog Output. Refer to OUTB pin description."

## LTC6911HMS-1
designator U?
Dual Channel, Matched Amplifier with Digitally Programmable Gain, 11 MHz Typical GBW, 16 V/us Typical SR, 2.7 to 10.5 V, 10-Pin SOP (MS-10), High Temperature / Automotive; Linear Technology Part Number: LTC6911-1; Manufacturer: Linear Technology; PartNumber: LTC6911HMS-1; Channels (#): 2; GBW (MHz) Typical: 11; Is (mA) Typical: 2.1; SR (V/us) Typical: 16; Vs Max (V): 10.5; Vs Min (V): 2.7; PackageVersion: Rev E; PackageReference: LT-MS-10; PackageDescription: 10-Lead Plastic MSOP, Body 3 x 3 mm, Pitch 0.5 mm; Supplier 1: Digi-Key; Supplier Part Number 1: LTC6911HMS-1-ND; Type: PGA; Vos (mV) Typical: 2; Mounting Technology: Surface Mount; ComponentLink1Description: Manufacturer URL; ComponentLink1URL: http://www.linear.com/; ComponentLink2Description: Datasheet; ComponentLink2URL: http://cds.linear.com/docs/en/datasheet/691112fs.pdf; ComponentLink3Description: Package Specification; ComponentLink3URL: http://cds.linear.com/docs/en/packaging/MSOP_10_05-08-1661.pdf
footprint LT-MS-10_N (SOP, 10-Leads, Body 3x3mm, Pitch 0.50mm, IPC Medium Density)
footprint LT-MS-10_L (SOP, 10-Leads, Body 3x3mm, Pitch 0.50mm, IPC High Density)
footprint LT-MS-10_M (SOP, 10-Leads, Body 3x3mm, Pitch 0.50mm, IPC Low Density)
pins: 1 INA (in) "Analog Input. The input signal to the A channel amplifier of the LTC6911-X is the voltage difference between the INA and AGND pin.", 2 AGND (power) "Analog Ground. The AGND pin is at the midpoint of an internal resistive voltage divider, developing a potential halfway between the V+ and V- pins, with an equivalent series resistance to the pin of nominally 5kW (FigureÊ1).", 3 INB (in) "Analog Input. Refer to INA pin description.", 4 G0 (in) "CMOS-Level Digital Gain Control Inputs. G2 is the most significant bit (MSB) and G0 is the least significant bit (LSB). These pins control the voltage gain settings for both channels (see Tables 1 and2). Each channel’s gain (See Datasheet)", 5 G1 (in) "CMOS-Level Digital Gain Control Inputs. G2 is the most significant bit (MSB) and G0 is the least significant bit (LSB). These pins control the voltage gain settings for both channels (see Tables 1 and2). Each channel’s gain (See Datasheet)", 6 G2 (in) "CMOS-Level Digital Gain Control Inputs. G2 is the most significant bit (MSB) and G0 is the least significant bit (LSB). These pins control the voltage gain settings for both channels (see Tables 1 and2). Each channel’s gain (See Datasheet)", 7 V+ (power) "Power Supply Pins. The V+ and V- pins should be bypassed with 0.1mF capacitors to an adequate analog ground plane using the shortest possible wiring. Electrically clean supplies and a low impedance ground are important for (See Datasheet)", 8 OUTB (out) "Analog Output. This is the output of the B channel internal operational amplifier and can swing railto- rail (V+ to V-) as specified in the Electrical Characteristics table.", 9 V- (power) "Power Supply Pins. The V+ and V- pins should be bypassed with 0.1mF capacitors to an adequate analog ground plane using the shortest possible wiring. Electrically clean supplies and a low impedance ground are important for (See Datasheet)", 10 OUTA (out) "Analog Output. Refer to OUTB pin description."